# EAGLE library part SVF-CELL-V1.1 (library XM8)
Requires 47k resistor on pos input
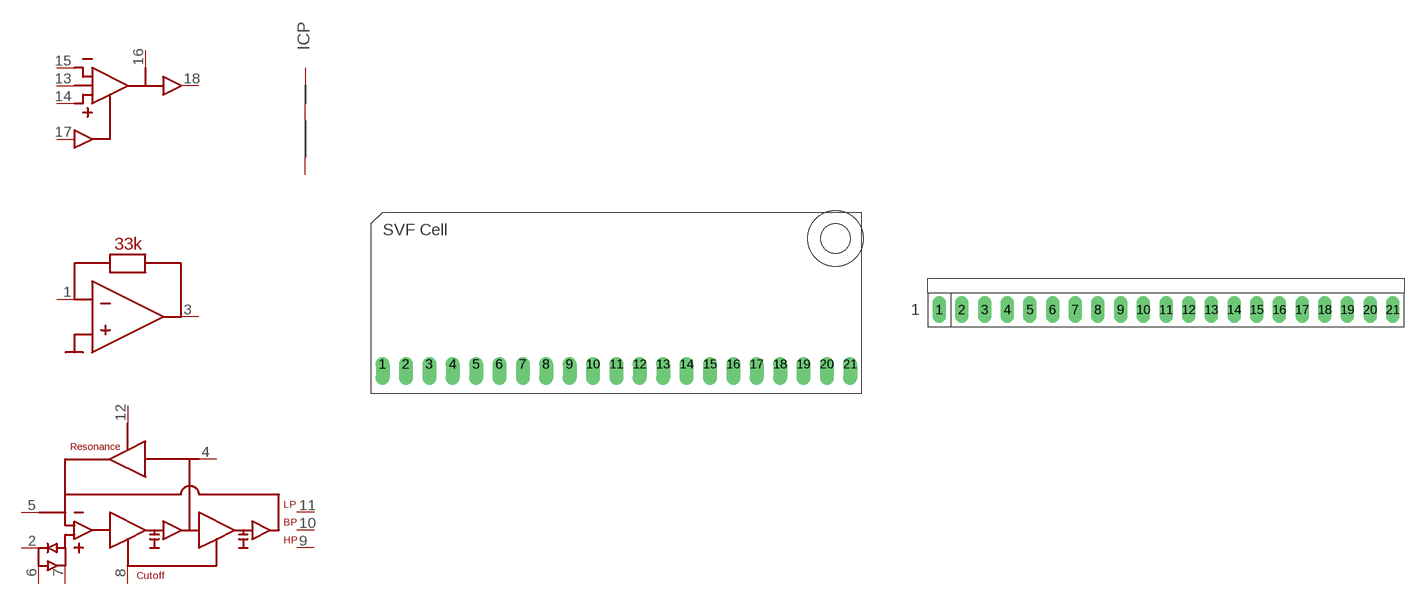
[diagram p25: symbol with the pads of XM8-SVF-CELL-V1.XH; footprints XM8-SVF-CELL-V1.XH, XM8-SVF-CELL-V1.XV]

Designator prefix IC; gates G$1=XM8-SVF-CELL-V1.0 G$2=XM8-SVF-VCA-V1.0 G$3=XM8-SVF-OPAMP-V1.0 P=XM8-PWR

## SVF-CELL-V1.1H  [XM8-SVF-CELL-V1.XH]
1  G$3:OPAMP_NEG
2  G$1:POS_IN
3  G$3:OPAMP_OUT
4  G$1:NEG_FEEDBACK
5  G$1:NEG_IN
6  G$1:PJ1
7  G$1:PJ2
8  G$1:CUTOFF
9  G$1:HP
10  G$1:BP
11  G$1:LP
12  G$1:RESONANCE
13  G$2:VCA_BIAS
14  G$2:VCA_POS_IN
15  G$2:VCA_NEG_IN
16  G$2:VCA_GAIN
17  G$2:VCA_CV
18  G$2:VCA_OUT
19  P:+V  pwr
20  P:AGND  pwr
21  P:-V  pwr

## SVF-CELL-V1.1V  [XM8-SVF-CELL-V1.XV]
Pads as for XM8-SVF-CELL-V1.XH

## Footprint XM8-SVF-CELL-V1.XH (pad centres in mm)
Xonik SVF Cell, horizontal mount
drill 1.016 offset: 1 -25.4,0; 2 -22.86,0; 3 -20.32,0; 4 -17.78,0; 5 -15.24,0; 6 -12.7,0; 7 -10.16,0; 8 -7.62,0; 9 -5.08,0; 10 -2.54,0; 11 0,0; 12 2.54,0; 13 5.08,0; 14 7.62,0; 15 10.16,0; 16 12.7,0; 17 15.24,0; 18 17.78,0; 19 20.32,0; 20 22.86,0; 21 25.4,0
hole 3.2 at 23.812,13.652

## Footprint XM8-SVF-CELL-V1.XV (pad centres in mm)
Xonik SVF Cell, vertical mount
drill 1.016 long: 1 -25.4,0; 2 -22.86,0; 3 -20.32,0; 4 -17.78,0; 5 -15.24,0; 6 -12.7,0; 7 -10.16,0; 8 -7.62,0; 9 -5.08,0; 10 -2.54,0; 11 0,0; 12 2.54,0; 13 5.08,0; 14 7.62,0; 15 10.16,0; 16 12.7,0; 17 15.24,0; 18 17.78,0; 19 20.32,0; 20 22.86,0; 21 25.4,0